# Altium schematic symbol library INA226AQDGSRQ1.SchLib: 1 symbol
Pins are listed as number, name and electrical type; pins without a type are passive.

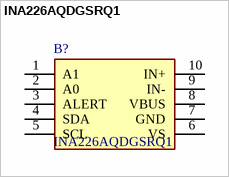
[diagram p0: symbol INA226AQDGSRQ1]

## INA226AQDGSRQ1
designator B?
AEC-Q100, 36V, Bi-Directional, High Accuracy, Low-/High-Side, I2C Out Current/Power Monitor w/Alert; Manufacturer_Name: Texas Instruments; Geometry.Height: 1.1mm; Mouser Part Number: 595-INA226AQDGSRQ1; Mouser Price/Stock: https://www.mouser.co.uk/ProductDetail/Texas-Instruments/INA226AQDGSRQ1?qs=uNh9J9Y3wTf1B1%2FBFFp7SA%3D%3D; Manufacturer_Part_Number: INA226AQDGSRQ1; Datasheet Link: http://www.ti.com/lit/gpn/ina226-q1
footprint SOP50P490X110-10N
pins: 1 A1, 2 A0, 3 ALERT, 4 SDA, 5 SCL, 6 VS, 7 GND, 8 VBUS, 9 IN-, 10 IN+